# Altium footprint library HV9006_MEASUREBOARD.PCBLIB: 292 footprints (part 13 of 19)
Each footprint in its own frame and in the unit in brackets; x right, y up, seen from the top. Pads: shape width x height; smd on the part's side, far side on the other; paste and mask are expansions set on the pad; w line width, h text height; cw(c..) or ccw(c..) is an arc to the next point about the centre after c.
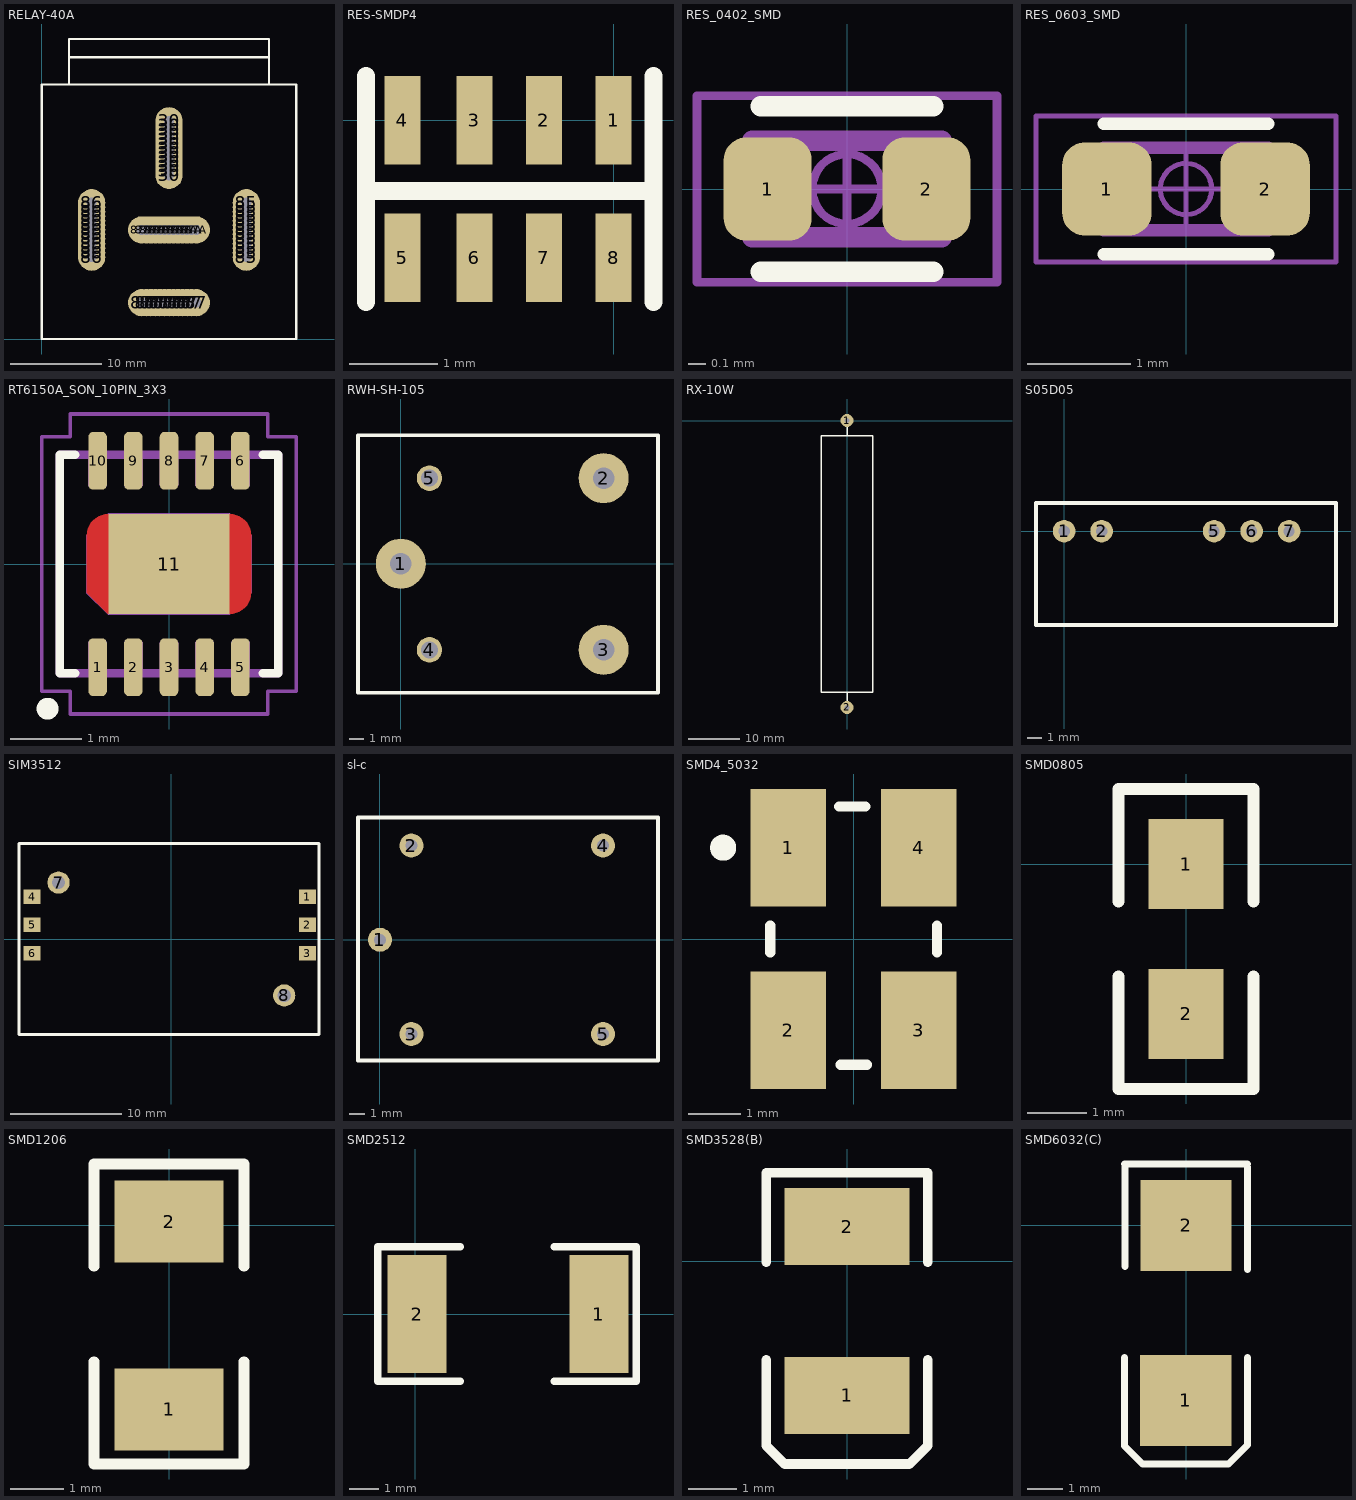
[diagram p12: the footprints below, top view; thin cyan lines are the x and y axes]

## RELAY-40A [mm]
pads (65):
  round 3 hole 1.1: 30(14,18) 30(14,18.5) 30(14,19) 30(14,19.5) 30(14,20) 30(14,20.5) 30(14,21) 30(14,21.5) 30(14,22) 30(14,22.5) 30(14,23) 30(14,23.5) 30(14,24) 85(22.5,9) 85(22.5,9.5) 85(22.5,10) 85(22.5,10.5) 85(22.5,11) 85(22.5,11.5) 85(22.5,12) 85(22.5,12.5) 85(22.5,13) 85(22.5,13.5) 85(22.5,14) 85(22.5,14.5) 85(22.5,15) 86(5.5,9) 86(5.5,9.5) 86(5.5,10) 86(5.5,10.5) 86(5.5,11) 86(5.5,11.5) 86(5.5,12) 86(5.5,12.5) 86(5.5,13) 86(5.5,13.5) 86(5.5,14) 86(5.5,14.5) 86(5.5,15) 87(11,4) 87(11.5,4) 87(12,4) 87(12.5,4) 87(13,4) 87(13.5,4) 87(14,4) 87(14.5,4) 87(15,4) 87(15.5,4) 87(16,4) 87(16.5,4) 87(17,4) 87A(11,12) 87A(11.5,12) 87A(12,12) 87A(12.5,12) 87A(13,12) 87A(13.5,12) 87A(14,12) 87A(14.5,12) 87A(15,12) 87A(15.5,12) 87A(16,12) 87A(16.5,12) 87A(17,12)
Top Overlay:
  lines w0.254: 3,28 3,33 25,33 25,28 ; 3,31 25,31 ; 5.5,9 5.5,15 ; 11,4 17,4 ; 11,12 17,12 ; 0,0 28,0 28,28 0,28 0,0 ; 5,9 5,15 6,15 6,9 5,9 ; 11,3.5 17,3.5 17,4.5 11,4.5 11,3.5 ; 11,11.5 17,11.5 17,12.5 11,12.5 11,11.5

## RES-SMDP4 [mil]
pads (8):
  rect 16x39.37 smd: 1(0,0) 2(-31,0) 3(-62,0) 4(-94,0) 5(-94,-61.02) 6(-62,-61.02) 7(-31,-61.02) 8(0,-61.02)
Top Overlay:
  lines w8: -110.24,-80.71 -110.24,19.68 ; -110.24,-31.5 -104.33,-31.5 17.72,-31.5 ; 17.72,-80.71 17.72,19.68

## RES_0402_SMD [mm] "Resistor, Chip; 1.00 mm L X 0.50 mm W X 0.35 mm H body"
height 0.35
pads (2):
  rrect51% 0.51x0.6 smd: 1(-0.46,0) 2(0.46,0)
Top Overlay:
  lines w0.12: -0.5,-0.48 0.5,-0.48 ; -0.5,0.48 0.5,0.48
Mechanical 11:
  lines w0.12: -0.55,-0.28 0.55,-0.28 0.55,0.28 -0.55,0.28 -0.55,-0.28
Mechanical 12:
  lines w0.025: -0.5,-0.25 0.5,-0.25 ; -0.5,-0.25 -0.5,0.25 ; -0.5,-0.25 -0.5,0.25 ; -0.5,-0.25 -0.3,-0.25 -0.3,0.25 -0.5,0.25 ; -0.5,0.25 0.5,0.25 ; 0.5,-0.25 0.5,0.25 ; 0.5,-0.25 0.3,-0.25 0.3,0.25 0.5,0.25 ; 0.5,-0.25 0.5,0.25
Mechanical 15:
  circle w0.05: c0,0 r0.202
  lines w0.05: -0.27,0 0.27,0 ; 0,-0.27 0,0.27 ; -0.87,-0.54 0.87,-0.54 0.87,0.54 -0.87,0.54 -0.87,-0.54
Mechanical 16:
  text ".Designator" at 0,0 h1.2
3D body: height 0.41, standoff 0, extent -0.525,-0.275 -0.35,0.275
3D body: height 0.41, standoff 0, extent 0.35,-0.275 0.525,0.275
3D body: height 0.4, standoff 0, extent -0.5,-0.25 0.5,0.25

## RES_0603_SMD [mm] "Resistor, Chip; 1.60 mm L X 0.80 mm W X 0.89 mm H body"
height 0.89
pads (2):
  rrect51% 0.87x0.91 smd: 1(-0.77,0) 2(0.77,0)
Top Overlay:
  lines w0.12: -0.8,-0.635 0.8,-0.635 ; -0.8,0.635 0.8,0.635
Mechanical 11:
  lines w0.12: -0.8,-0.4 0.8,-0.4 0.8,0.4 -0.8,0.4 -0.8,-0.4
Mechanical 12:
  lines w0.025: -0.8,-0.4 0.8,-0.4 ; -0.8,-0.4 -0.8,0.4 ; -0.8,-0.4 -0.8,0.4 ; -0.8,-0.4 -0.45,-0.4 -0.45,0.4 -0.8,0.4 ; -0.8,0.4 0.8,0.4 ; 0.8,-0.4 0.8,0.4 ; 0.8,-0.4 0.45,-0.4 0.45,0.4 0.8,0.4 ; 0.8,-0.4 0.8,0.4
Mechanical 15:
  circle w0.05: c0,0 r0.25
  lines w0.05: -0.35,0 0.35,0 ; 0,-0.35 0,0.35 ; -1.46,-0.71 1.46,-0.71 1.46,0.71 -1.46,0.71 -1.46,-0.71
Mechanical 16:
  text ".Designator" at 0,0 h1.2
3D body: height 0.41, standoff 0, extent -0.825,-0.425 -0.525,0.325
3D body: height 0.41, standoff 0, extent 0.525,-0.425 0.825,0.325
3D body: height 0.4, standoff 0, extent -0.8,-0.4 0.8,0.3

## RT6150A_SON_10PIN_3X3 [mm] "Small Outline No-Lead (SON with Tab), 0.50 mm pitch; 10 pin, 3.00 mm L X 3.00 mm W X 0.80 mm H body"
height 0.8
pads (11):
  rrect54% 0.26x0.81 smd: 1(-1,-1.445) 2(-0.5,-1.445) 3(0,-1.445) 4(0.5,-1.445) 5(1,-1.445) 6(1,1.445) 7(0.5,1.445) 8(0,1.445) 9(-0.5,1.445) 10(-1,1.445)
  rect 1.7x1.4 smd paste-1.7 mask+0: 11(0,0)
Top Layer:
  region: 1.15,0 1.15,-0.4 1.146,-0.447 1.135,-0.493 1.117,-0.536 1.093,-0.576 1.062,-0.612 1.026,-0.643 0.986,-0.667 0.943,-0.685 0.897,-0.696 -0.85,-0.7 -1.15,-0.4 -1.15,0.4 -1.146,0.447 -1.135,0.493 -1.117,0.536 -1.093,0.576 -1.062,0.612 -1.026,0.643 -0.986,0.667 -0.943,0.685 -0.897,0.696 0.85,0.7 0.897,0.696 0.943,0.685 0.986,0.667 1.026,0.643 1.062,0.612 1.093,0.576 1.117,0.536 1.135,0.493 1.146,0.447 1.15,0.4
Top Overlay:
  circle w0.254: c-1.7,-2.025 r0.025
  lines w0.12: -1.31,-1.53 -1.53,-1.53 -1.53,1.53 -1.31,1.53 ; 1.31,-1.53 1.53,-1.53 1.53,1.53 1.31,1.53
Top Paste:
  region: 0.985,-0.45 0.085,-0.45 0.085,0.45 0.985,0.45
  region: -0.085,-0.45 -0.985,-0.45 -0.985,0.45 -0.085,0.45
Top Solder:
  region: 1.15,0 1.15,-0.4 1.146,-0.447 1.135,-0.493 1.117,-0.536 1.093,-0.576 1.062,-0.612 1.026,-0.643 0.986,-0.667 0.943,-0.685 0.897,-0.696 -0.85,-0.7 -1.15,-0.4 -1.15,0.4 -1.146,0.447 -1.135,0.493 -1.117,0.536 -1.093,0.576 -1.062,0.612 -1.026,0.643 -0.986,0.667 -0.943,0.685 -0.897,0.696 0.85,0.7 0.897,0.696 0.943,0.685 0.986,0.667 1.026,0.643 1.062,0.612 1.093,0.576 1.117,0.536 1.135,0.493 1.146,0.447 1.15,0.4
Mechanical 11:
  lines w0.12: -1.53,-1.53 -1.53,1.53 1.53,1.53 1.53,-1.53 -1.53,-1.53
Mechanical 12:
  lines w0.025: -1.15,0.4 -1.15,-0.4 -0.85,-0.7 0.85,-0.7 ; -0.85,0.7 0.85,0.7 ; 1.15,-0.4 1.15,0.4 ; -1.5,-1.5 -1.5,1.5 1.5,1.5 1.5,-1.5 -1.5,-1.5 ; -1.12,-1.5 -0.88,-1.5 -0.88,-1.1 -1.12,-1.1 -1.12,-1.5 ; -1.12,1.1 -0.88,1.1 -0.88,1.5 -1.12,1.5 -1.12,1.1 ; -0.62,-1.5 -0.38,-1.5 -0.38,-1.1 -0.62,-1.1 -0.62,-1.5 ; -0.62,1.1 -0.38,1.1 -0.38,1.5 -0.62,1.5 -0.62,1.1 ; -0.12,-1.5 0.12,-1.5 0.12,-1.1 -0.12,-1.1 -0.12,-1.5 ; -0.12,1.1 0.12,1.1 0.12,1.5 -0.12,1.5 -0.12,1.1 ; 0.38,-1.5 0.62,-1.5 0.62,-1.1 0.38,-1.1 0.38,-1.5 ; 0.38,1.1 0.62,1.1 0.62,1.5 0.38,1.5 0.38,1.1 ; 0.88,-1.5 1.12,-1.5 1.12,-1.1 0.88,-1.1 0.88,-1.5 ; 0.88,1.1 1.12,1.1 1.12,1.5 0.88,1.5 0.88,1.1
Mechanical 15:
  circle w0.05: c0,0 r0.25
  lines w0.05: -0.35,0 0.35,0 ; 0,-0.35 0,0.35 ; -1.78,-1.78 -1.38,-1.78 -1.38,-2.1 1.38,-2.1 1.38,-1.78 1.78,-1.78 1.78,1.78 1.38,1.78 1.38,2.1 -1.38,2.1 -1.38,1.78 -1.78,1.78 -1.78,-1.78
Mechanical 16:
  text ".Designator" at 0,0 h1.2
3D body: height 0.8, standoff 0, extent -1.5,-1.5 1.5,1.5

## RWH-SH-105 [mil]
pads (5):
  round 138 hole 59: 1(0,0) 2(559,236) 3(559,-237)
  round 70 hole 47: 4(79,-237) 5(79,236)
Top Overlay:
  lines w10: -118,-355 709,-355 709,354 -118,354 -118,-355

## RX-10W [mil]
pads (2):
  round 100 hole 40: 1(0,0) 2(0,-2205)
Top Overlay:
  lines w10: 0,-2205 0,-2087 ; 0,-119 0,0 ; -197,-2087 -197,-119 197,-119 197,-2087 -197,-2087

## S05D05 [mil]
pads (5):
  round 60 hole 30: 1(0,0) 2(100,0) 5(400,0) 6(500,0) 7(600,0)
Top Overlay:
  lines w10: -75,-250 725,-250 725,75 -75,75 -75,-250

## SIM3512 [mm]
pads (8):
  rect 1.5x1.3 smd: 1(12.256,3.81) 2(12.256,1.27) 3(12.256,-1.27) 4(-12.544,3.81) 5(-12.544,1.27) 6(-12.544,-1.27)
  round 2 hole 1.2: 7(-10.16,5.08) 8(10.16,-5.08)
Top Overlay:
  lines w0.254: -13.718,-8.6 13.293,-8.6 13.293,0 13.293,8.6 -13.718,8.6 -13.718,-8.585

## sl-c [mil]
pads (5):
  round 60 hole 30: 1(0,0) 2(78.74,236.22) 3(78.74,-236.22) 4(559.06,236.22) 5(559.06,-236.22)
Top Overlay:
  lines w10: -55.12,-303.15 -55.12,307.09 696.85,307.09 696.85,-303.15 -55.12,-303.15

## SMD4_5032 [mm]
pads (4):
  rect 1.45x2.25 smd: 1(-1.25,1.75) 2(-1.25,-1.75) 3(1.25,-1.75) 4(1.25,1.75)
Top Overlay:
  circle w0.25: c-2.5,1.75 r0.125
  lines w0.2: -1.6,-0.25 -1.6,0.25 ; -0.275,2.54 0.225,2.54 ; -0.25,-2.413 0.25,-2.413 ; 1.6,-0.25 1.6,0.25

## SMD0805 [mil]
pads (2):
  rect 50x60 smd: 1(0,0) 2(0,-100)
Top Overlay:
  lines w7.87: -45,-75 -45,-150 45,-150 45,-75 ; -45,-25 -45,50 45,50 45,-25

## SMD1206 [mil]
pads (2):
  rect 80x60 smd: 1(0,-135) 2(0,2.79)
Top Overlay:
  lines w8: -55,-100 -55,-175 55,-175 55,-100 ; -55,-30 -55,45 55,45 55,-30

## SMD2512 [mm]
pads (2):
  rect 2x4 smd: 1(6.223,0) 2(0.056,0)
Top Overlay:
  lines w0.254: 1.524,-2.286 -1.27,-2.286 -1.27,2.286 1.524,2.286 ; 4.699,-2.286 7.493,-2.286 7.493,2.286 4.699,2.286

## SMD3528(B) [mm]
pads (2):
  rect 2.6x1.6 smd: 1(0,-2.782) 2(0,0.718)
Top Overlay:
  lines w0.2: -1.676,-2.048 -1.676,-3.826 -1.295,-4.207 1.295,-4.207 1.676,-3.826 1.676,-2.048 ; -1.676,-0.016 -1.676,1.813 ; -1.676,1.838 1.676,1.838 ; 1.676,-0.016 1.676,1.813

## SMD6032(C) [mm]
pads (2):
  rect 2.6x2.6 smd: 1(-0.007,-4.992) 2(0,0)
Top Overlay:
  lines w0.2: -1.752,1.752 1.752,1.752 ; -1.75,-6.267 -1.75,-6.296 -1.244,-6.802 ; -1.748,-6.266 -1.748,-3.772 ; -1.744,-1.177 -1.744,1.744 ; -1.233,-6.804 1.216,-6.804 ; 1.216,-6.8 1.752,-6.264 ; 1.752,-6.266 1.752,-3.772 ; 1.752,-1.254 1.752,1.667